# Altium footprint library aiskylab-06IC-01Linear.PcbLib: 6 footprints
Each footprint in its own frame and in the unit in brackets; x right, y up, seen from the top. Pads: shape width x height; smd on the part's side, far side on the other; paste and mask are expansions set on the pad; w line width, h text height; cw(c..) or ccw(c..) is an arc to the next point about the centre after c.
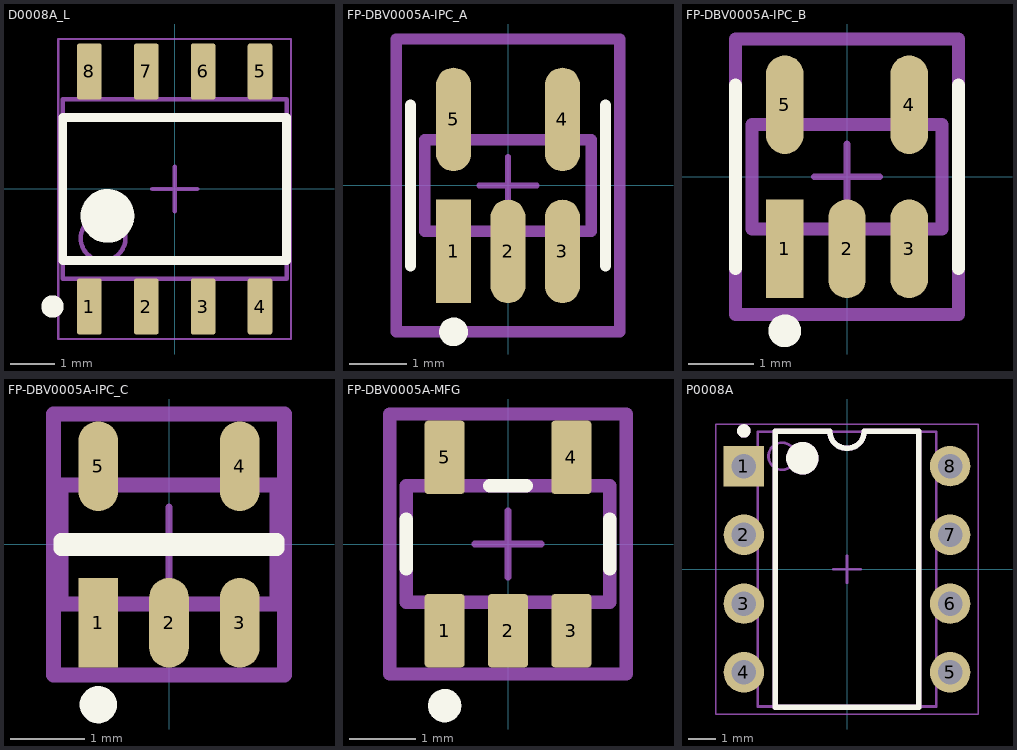
[diagram p0: the footprints below, top view; thin cyan lines are the x and y axes]

## D0008A_L [mm] "SOIC, 8-Leads, Body 5x4mm, Pitch 1.27mm, IPC High Density"
height 1.75
pads (8):
  rrect18% 0.55x1.25 smd: 1(-1.905,-2.625) 2(-0.635,-2.625) 3(0.635,-2.625) 4(1.905,-2.625) 5(1.905,2.625) 6(0.635,2.625) 7(-0.635,2.625) 8(-1.905,2.625)
Top Overlay:
  circle w0.25: c-2.73,-2.625 r0.125
  circle w0.6: c-1.5,-0.6 r0.3
  lines w0.2: -2.5,-1.6 2.5,-1.6 2.5,1.6 -2.5,1.6 -2.5,-1.6
Top Designator:
  text ".Designator" at 0,-0.051 h0.6
Top Assembly:
  circle w0.1: c-1.6,-1.1 r0.5
  lines w0.1: -2.5,-2 -2.5,2 2.5,2 2.5,-2 -2.5,-2
Top Component Center:
  lines w0.1: -0.5,0 0.5,0 ; 0,-0.5 0,0.5
Top Component Outline:
  lines w0.05: -2.6,-3.35 -2.6,3.35 2.6,3.35 2.6,-3.35 -2.6,-3.35
3D body "SOIC-8akaD0008AakaM08A.stp": height 1.63, standoff 0, extent -2.45,-3 2.45,3

## FP-DBV0005A-IPC_A [mm]
pads (5):
  rect 0.612x1.805 smd paste+0 mask+0: 1(-0.95,-1.15)
  rrect100% 0.612x1.805 smd paste+0 mask+0: 2(0,-1.15) 3(0.95,-1.15) 4(0.95,1.15) 5(-0.95,1.15)
Top Overlay:
  circle w0.25: c-0.95,-2.553 r0.125
  lines w0.2: -1.7,-1.4 -1.7,1.4 ; 1.7,-1.4 1.7,1.4
Top Designator:
  text ".Designator" at 0.025,0.188 h1
Top Assembly:
  lines w0.2: -1.95,-2.553 -1.95,2.553 1.95,2.553 1.95,-2.553 -1.95,-2.553 ; -1.45,-0.8 -1.45,0.8 1.45,0.8 1.45,-0.8 -1.45,-0.8
Top Component Center:
  lines w0.1: -0.5,0 0.5,0 ; 0,-0.5 0,0.5
Top Component Outline:
  lines w0.2: -1.95,-2.553 -1.95,2.553 1.95,2.553 1.95,-2.553 -1.95,-2.553
3D body "IC_Texas_Instruments_INA138NA-3K_eec.STEP": height 1.45, standoff 0, extent -1.45,-1.4 1.45,1.4

## FP-DBV0005A-IPC_B [mm]
pads (5):
  rect 0.572x1.505 smd paste+0 mask+0: 1(-0.95,-1.1)
  rrect100% 0.572x1.505 smd paste+0 mask+0: 2(0,-1.1) 3(0.95,-1.1) 4(0.95,1.1) 5(-0.95,1.1)
Top Overlay:
  circle w0.25: c-0.95,-2.353 r0.125
  lines w0.2: -1.7,-1.4 -1.7,1.4 ; 1.7,-1.4 1.7,1.4
Top Designator:
  text ".Designator" at 0,0.188 h1
Top Assembly:
  lines w0.2: -1.7,-2.103 1.7,-2.103 1.7,2.103 -1.7,2.103 -1.7,-2.103 ; -1.45,-0.8 1.45,-0.8 1.45,0.8 -1.45,0.8 -1.45,-0.8
Top Component Center:
  lines w0.1: -0.5,0 0.5,0 ; 0,-0.5 0,0.5
Top Component Outline:
  lines w0.2: -1.7,-2.103 1.7,-2.103 1.7,2.103 -1.7,2.103 -1.7,-2.103
3D body "IC_Texas_Instruments_INA138NA-3K_eec.STEP": height 1.45, standoff 0, extent -1.45,-1.4 1.45,1.4

## FP-DBV0005A-IPC_C [mm]
pads (5):
  rect 0.532x1.205 smd paste+0 mask+0: 1(-0.95,-1.05)
  rrect100% 0.532x1.205 smd paste+0 mask+0: 2(0,-1.05) 3(0.95,-1.05) 4(0.95,1.05) 5(-0.95,1.05)
Top Overlay:
  circle w0.25: c-0.95,-2.153 r0.125
  lines w0.2: -1.45,-0.052 -1.45,0.052 1.45,0.052 1.45,-0.052 -1.45,-0.052
Top Designator:
  text ".Designator" at 0,0.188 h1
Top Assembly:
  lines w0.2: -1.55,-1.753 1.55,-1.753 1.55,1.753 -1.55,1.753 -1.55,-1.753 ; -1.45,-0.8 1.45,-0.8 1.45,0.8 -1.45,0.8 -1.45,-0.8
Top Component Center:
  lines w0.1: -0.5,0 0.5,0 ; 0,-0.5 0,0.5
Top Component Outline:
  lines w0.2: -1.55,-1.753 1.55,-1.753 1.55,1.753 -1.55,1.753 -1.55,-1.753
3D body "IC_Texas_Instruments_INA138NA-3K_eec.STEP": height 1.45, standoff 0, extent -1.45,-1.4 1.45,1.4

## FP-DBV0005A-MFG [mm]
pads (5):
  rrect17% 0.6x1.1 smd paste+0 mask+0: 1(-0.95,-1.3) 2(0,-1.3) 3(0.95,-1.3) 4(0.95,1.3) 5(-0.95,1.3)
Top Overlay:
  circle w0.25: c-0.95,-2.425 r0.125
  lines w0.2: -1.525,-0.375 -1.525,0.375 ; -0.275,0.875 0.275,0.875 ; 1.525,-0.375 1.525,0.375
Top Designator:
  text ".Designator" at 0.188,0.188 h1
Top Assembly:
  lines w0.2: -1.525,-0.875 1.525,-0.875 1.525,0.875 -1.525,0.875 -1.525,-0.875
Bottom Assembly:
  lines w0.2: -1.775,-1.95 1.775,-1.95 1.775,1.95 -1.775,1.95 -1.775,-1.95
Top Component Center:
  lines w0.1: -0.5,0 0.5,0 ; 0,-0.5 0,0.5
Top Component Outline:
  lines w0.2: -1.775,-1.95 1.775,-1.95 1.775,1.95 -1.775,1.95 -1.775,-1.95
3D body "IC_Texas_Instruments_INA138NA-3K_eec.STEP": height 1.45, standoff 0, extent -1.45,-1.4 1.45,1.4

## P0008A [mm] "DIP, 8-Leads, Body 10.15x6.6mm, Pitch 2.54mm"
height 5.08
pads (8):
  rect 1.5x1.5 hole 0.9: 1(-3.81,3.81)
  round 1.5 hole 0.9: 2(-3.81,1.27) 3(-3.81,-1.27) 4(-3.81,-3.81) 5(3.81,-3.81) 6(3.81,-1.27) 7(3.81,1.27) 8(3.81,3.81)
Top Overlay:
  circle w0.6: c-1.65,4.1 r0.3
  circle w0.25: c-3.81,5.11 r0.125
  lines w0.2: -2.65,-5.1 2.65,-5.1 2.65,5.1 0.635,5.1 cw(c0,5.1) -0.635,5.1 -2.65,5.1 -2.65,-5.1
Top Designator:
  text ".Designator" at -1.524,-0.508 h1.02
Top Assembly:
  circle w0.6: c-1.65,4.1 r0.3
  circle w0.25: c-3.81,5.11 r0.125
  lines w0.2: -2.65,-5.1 2.65,-5.1 2.65,5.1 0.635,5.1 cw(c0,5.1) -0.635,5.1 -2.65,5.1 -2.65,-5.1
Top Component Center:
  lines w0.1: -0.5,0 0.5,0 ; 0,-0.5 0,0.5
Top Component Outline:
  lines w0.05: -4.85,-5.35 -4.85,5.35 4.85,5.35 4.85,-5.35 -4.85,-5.35
Top 3D Body:
  circle w0.1: c-2.4,4.175 r0.5
  lines w0.1: -3.3,-5.075 -3.3,5.075 3.3,5.075 3.3,-5.075 -3.3,-5.075
3D body: height 5.08, standoff 0.51, extent -3.3,-5.075 3.3,5.075
3D body: height 0, standoff -1.6, extent -3.945,-1.63 -3.675,-0.91
3D body: height 2.93, standoff 2.66, extent -3.945,-1.77 -3.3,-0.77
3D body: height 2.66, standoff 0, extent -3.945,-1.77 -3.675,-0.77
3D body: height 0, standoff -1.6, extent -3.945,0.91 -3.675,1.63
3D body: height 2.93, standoff 2.66, extent -3.945,0.77 -3.3,1.77
3D body: height 2.66, standoff 0, extent -3.945,0.77 -3.675,1.77
3D body: height 0, standoff -1.6, extent 3.675,-1.63 3.945,-0.91
3D body: height 2.93, standoff 2.66, extent 3.3,-1.77 3.945,-0.77
3D body: height 2.66, standoff 0, extent 3.675,-1.77 3.945,-0.77
3D body: height 0, standoff -1.6, extent 3.675,0.91 3.945,1.63
3D body: height 2.93, standoff 2.66, extent 3.3,0.77 3.945,1.77
3D body: height 2.66, standoff 0, extent 3.675,0.77 3.945,1.77
3D body: height 0, standoff -1.6, extent -3.945,-4.17 -3.675,-3.45
3D body: height 2.93, standoff 2.66, extent -3.945,-4.31 -3.3,-3.31
3D body: height 2.66, standoff 0, extent -3.945,-4.31 -3.675,-3.31
3D body: height 0, standoff -1.6, extent -3.945,3.45 -3.675,4.17
3D body: height 2.93, standoff 2.66, extent -3.945,3.31 -3.3,4.31
3D body: height 2.66, standoff 0, extent -3.945,3.31 -3.675,4.31
3D body: height 0, standoff -1.6, extent 3.675,-4.17 3.945,-3.45
3D body: height 2.93, standoff 2.66, extent 3.3,-4.31 3.945,-3.31
3D body: height 2.66, standoff 0, extent 3.675,-4.31 3.945,-3.31
3D body: height 0, standoff -1.6, extent 3.675,3.45 3.945,4.17
3D body: height 2.93, standoff 2.66, extent 3.3,3.31 3.945,4.31
3D body: height 2.66, standoff 0, extent 3.675,3.31 3.945,4.31